# EAGLE library part LT3751 (library linear-technology)
The LT3751 is a high input voltage capable flyback con- troller designed to rapidly charge a large capacitor to a user-adjustable high target voltage set by the transformer turns ratio and three external resistors.
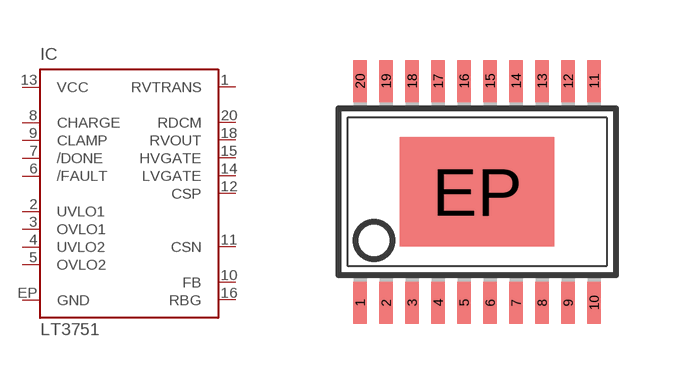
[diagram p4: symbol with the pads of TSSOP20E; footprint TSSOP20E]

Designator prefix IC

## LT3751  [TSSOP20E]
1  RVTRANS  in
2  UVLO1  pas
3  OVLO1  pas
4  UVLO2  pas
5  OVLO2  pas
6  /FAULT  out
7  /DONE  out
8  CHARGE  in
9  CLAMP  in
10  FB  in
11  CSN  in
12  CSP  in
13  VCC  pwr
14  LVGATE  out
15  HVGATE  out
16  RBG  pas
18  RVOUT  in
20  RDCM  in
EP  GND  pwr

## Footprint TSSOP20E (pad centres in mm)
TSSOP20 with exposed pad
smd 0.34 x 1.05: 1 -2.925,-2.775; 2 -2.275,-2.775; 3 -1.625,-2.775; 4 -0.975,-2.775; 5 -0.325,-2.775; 6 0.325,-2.775; 7 0.975,-2.775; 8 1.625,-2.775; 9 2.275,-2.775; 10 2.925,-2.775; 11 2.925,2.775; 12 2.275,2.775; 13 1.625,2.775; 14 0.975,2.775; 15 0.325,2.775; 16 -0.325,2.775; 17 -0.975,2.775; 18 -1.625,2.775; 19 -2.275,2.775; 20 -2.925,2.775
smd 3.86 x 2.74: EP 0,0